# Altium schematic symbol library Q_PFET_3PIN_134.Schlib: 1 symbol
Pins are listed as number, name and electrical type; pins without a type are passive.

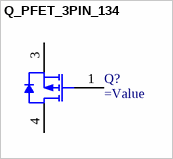
[diagram p0: symbol Q_PFET_3PIN_134]

## Q_PFET_3PIN_134
designator Q?
PFET, 8-Pin Package
pins: 1 GATE, 3 SOURCE, 4 DRAIN